# Altium schematic symbol library Inductors.SchLib: 14 symbols
Pins are listed as number, name and electrical type; pins without a type are passive.

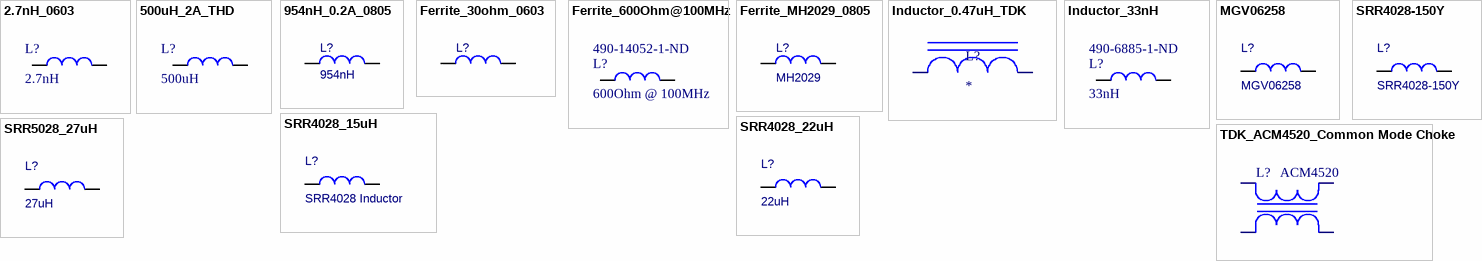
[diagram p0: symbols 2.7nH_0603 to TDK_ACM4520_Common Mode Choke]

## 2.7nH_0603
designator L?, comment 2.7nH
Ind,2.7nH,300mA,100mOhm DCR,13@100MHz,0603; Supplier 1: Digi-Key; Supplier Part Number 1: 399-9570-1-ND
footprint L1608[0603]
pins: 1, 2

## 500uH_2A_THD
designator L?, comment 500uH
1536Y; Supplier 1: Digi-Key; Supplier 2: Mouser; Supplier 3: Arrow; Supplier 4: Allied Electronics; Supplier Part Number 1: HM3330-ND; Supplier Part Number 2: 546-1536Y; Supplier Part Number 3: 1536Y; Supplier Part Number 4: 70181029
footprint 1536Y (Inductor 500uH)
pins: 1, 2

## 954nH_0.2A_0805
designator L?, comment 954nH
EMI Suppr,SMD,600 Ohm @ 100MHz,0.2A,0805; Manufacturer: Murata Electronics North America; Manufacturer P/N: BLM21BD222TN1D; P/N: 245-025-19; UM: EA; Fast Supplier: Digi-Key; Fast Supplier P/N: 490-1050-1-ND; Current: 0.2A
footprint L2012[0805]
pins: 1, 2

## Ferrite_30ohm_0603
designator L?, comment CIC10P300NC  (value not drawn)
IND FERRITE BEAD 30 Ohm @ 100MHz 0603; Manufacturer: Samsung; Featured Product: CIB and CIM Series Chip Beads; Filter Type: Power Line; Number of Lines: 1; Current Rating (Max): 3A; DC Resistance (DCR) (Max): 25 mOhm; Online Catalog: CIC10 Series; Other Names: 1276-6322-6; TZOA PN: 213-00002; Supplier 1: Digi-Key; Manufacturer Part Number: CIC10P300NC; Stock 1: 0; Pricing 1: 1=0.1, 10=0.019, 25=0.0172, 50=0.0156, 100=0.014, 250=0.0102, 500=0.0074, 1000=0.0073 (USD); RoHS Information: Chip Beads RoHS Compliance; Standard Package: 1; Category: Filters; Family: Ferrite Beads and Chips; Series: CIC10; Packaging: Cut Tape (CT); Impedance @ Frequency: 30 Ohm @ 100MHz; Ratings: -; Operating Temperature: -55°C ~ 125°C; Package / Case: 0603 (1608 Metric); Mounting Type: Surface Mount; Height (Max): 0.037" (0.95mm); Size / Dimension: 0.063" L x 0.031" W (1.60mm x 0.80mm); ComponentLink1URL: https://datasheet.ciiva.com/29994/cic10j600nc-29994209.pdf; ComponentLink1Description: https://datasheet.ciiva.com/29994/cic10j600nc-29994209.pdf; ComponentLink2URL: https://datasheet.ciiva.com/30504/cic10p300nc-30504103.pdf; ComponentLink2Description: https://datasheet.ciiva.com/30504/cic10p300nc-30504103.pdf; ComponentLink3URL: https://datasheet.ciiva.com/16206/cic10-series-16206632.pdf; ComponentLink3Description: https://datasheet.ciiva.com/16206/cic10-series-16206632.pdf; Supplier Part Number 1: 1276-6322-1-ND
footprint L1608[0603]
pins: 1, 2

## Ferrite_600Ohm@100MHz
designator L?, comment 600Ohm @ 100MHz  Supplier Part Number 1: 490-14052-1-ND
Ferrite Bead, 600Ohm @ 100MHz, 200mA IDC, Power Line, 0603; Supplier 1: Digi-Key
footprint L1608[0603]
pins: 1, 2

## Ferrite_MH2029_0805
designator L?, comment MH2029
Ferrite,SMD,3A,30Ohm,0805; Manufacturer: Bourns Inc.; Manufacturer Part Number: MH2029-300Y; Filter Type: Power, Signal Line; Number of Lines: 1; Impedance @ Frequency: 30 Ohm @ 100MHz; DC Resistance (DCR) (Max): 25 mOhm; ID: 1851582; Supplier 1: Digi-Key; Supplier Part Number 1: MH2029-300YCT-ND; RoHS: RoHS Compliant; Category: Filters; Stock: 27744; Pricing: 1=0.14, 10=0.087, 25=0.08, 50=0.072, 100=0.0529, 250=0.03844, 500=0.03524, 1000=0.03043 (CAD); Packaging: Cut Tape (CT); Current Rating (Max): 3A; Ratings: -; Operating Temperature: -55°C ~ 125°C; Package / Case: 0805 (2012 Metric); Mounting Type: Surface Mount; Height (Max): 0.043" (1.10mm); Size / Dimension: 0.079" L x 0.047" W (2.00mm x 1.20mm); ComponentLink1URL: http://www.bourns.com/docs/Product-Datasheets/mh.pdf; ComponentLink1Description: http://www.bourns.com/docs/Product-Datasheets/mh.pdf; Supplier 2: Arrow; Supplier Part Number 2: m2dWQtYZmUCQVruAmfTV4mDHm8tZpH9KPPdphe4ib-E; Package Quantity: 1; ComponentLink2URL: https://www.arrow.com/en/products/mh2029-300y/bourns/; ComponentLink2Description: https://www.arrow.com/en/products/mh2029-300y/bourns/
footprint L2012[0805]
pins: 1, 2

## Inductor_0.47uH_TDK
designator L?
Manufacturer: TDK Corporation; Manufacturer Part Number: GLFR1608TR47M-LR; Type: Wirewound; Inductance: 470nH; Tolerance: ±20%; Current Rating: 1.1A; Current - Saturation: 300mA; Shielding: Shielded; DC Resistance (DCR): 50 mOhm; Supplier 1: Digi-Key; Supplier Part Number 1: 445-6158-1-ND; RoHS: RoHS Compliant; Category: Inductors, Coils, Chokes; Stock: 24449; Pricing: 1=0.41, 10=0.359, 50=0.2792, 100=0.2592, 500=0.22722, 1000=0.18336 (CAD); Packaging: Cut Tape (CT); Part Status: Active; Material - Core: -; Q @ Freq: -; Frequency - Self Resonant: -; Ratings: -; Operating Temperature: -40°C ~ 105°C; Frequency - Test: -; Mounting Type: Surface Mount; Package / Case: 0603 (1608 Metric); Size / Dimension: 0.063" L x 0.031" W (1.60mm x 0.80mm); Height - Seated (Max): 0.039" (1.00mm); ComponentLink1URL: http://media.digikey.com/pdf/Data%20Sheets/TDK%20PDFs/GLFR%20Series.pdf; ComponentLink1Description: http://media.digikey.com/pdf/Data%20Sheets/TDK%20PDFs/GLFR%20Series.pdf
footprint 0603_INDUCTOR
pins: 1 (power), 2 (power)

## Inductor_33nH
designator L?, comment 33nH  Supplier Part Number 1: 490-6885-1-ND
Fixed Inductor,SMD,33nH,550mA,132mOhmDCR,2.5GHz,0603; Supplier 1: Digi-Key
footprint L1608[0603]
pins: 1, 2

## MGV06258
designator L?
Inductor, SMD, 8.2uH, 3A, 7.3x6.7mm; Manufacturer: Laird-Signal Integrity; Manufacturer Part Number: MGV06258R2M-10; Supplier 1: Digi-Key; Supplier Part Number 1: 240-2926-1-ND; Supplier 2: Arrow; Supplier Part Number 2: *
footprint MGV06258R2M (8.2uH Shielded Inductor)
pins: 1, 2

## SRR4028-150Y
designator L?
Inductor, SMD, 15uH, 1A, 5x5mm; Manufacturer: Bourns; Type: Power; Maximum DC Current: 1.03 A; Tolerance: 30 %; Maximum DC Resistance: 150 mOhm; Minimum Quality Factor: 9.66@2.52MHz; Rad Hard: No; Core Material: Ferrite; Product Depth: 5 mm; Product Height: 3 mm; Supplier 1: Digikey; Manufacturer Part Number: SRR4028-150Y; Stock 1: 7; Pricing 1: 1=0.7, 10=0.612, 100=0.437 (USD); Package/Case: 5 X 5 X 3; Packaging: Cut Tape; Inductance: 15 uH; ComponentLink1URL: https://datasheet.ciiva.com/4955/srr4028-34013-4955173.pdf; ComponentLink1Description: https://datasheet.ciiva.com/4955/srr4028-34013-4955173.pdf; ComponentLink2URL: https://datasheet.ciiva.com/48684/srr4028-48684773.pdf; ComponentLink2Description: https://datasheet.ciiva.com/48684/srr4028-48684773.pdf; ComponentLink3URL: https://datasheet.ciiva.com/1060/srr4028-1060090.pdf; ComponentLink3Description: https://datasheet.ciiva.com/1060/srr4028-1060090.pdf; ComponentLink4URL: https://datasheet.ciiva.com/1060/srr4028-1060091.pdf; ComponentLink4Description: https://datasheet.ciiva.com/1060/srr4028-1060091.pdf; ComponentLink5URL: https://datasheet.ciiva.com/18686/srr4028-18686924.pdf; ComponentLink5Description: https://datasheet.ciiva.com/18686/srr4028-18686924.pdf; Supplier Part Number 1: SRR4028-150YCT-ND
footprint 1919 (4848 Metric) (Bourns Inductor Footprint)
pins: 1, 2

## SRR4028_15uH
designator L?, comment SRR4028 Inductor
Inductor, SMD, 15uH, 1A, 5x5mm; Manufacturer: Bourns; Manufacturer Part Number: SRR4028-150Y; TZOA PN: 213-00001; Type: Power; Maximum DC Current: 1.03 A; Tolerance: 30 %; Maximum DC Resistance: 150 mOhm; Minimum Quality Factor: 9.66@2.52MHz; Rad Hard: No; Core Material: Ferrite; Product Depth: 5 mm; Product Height: 3 mm; Supplier 1: Digi-Key; Stock 1: 0; Pricing 1: 1=0.7, 10=0.612, 100=0.437 (USD); Package/Case: 5 X 5 X 3; Packaging: Cut Tape; Inductance: 15 uH; ComponentLink1URL: https://datasheet.ciiva.com/4955/srr4028-34013-4955173.pdf; ComponentLink1Description: https://datasheet.ciiva.com/4955/srr4028-34013-4955173.pdf; ComponentLink2URL: https://datasheet.ciiva.com/48684/srr4028-48684773.pdf; ComponentLink2Description: https://datasheet.ciiva.com/48684/srr4028-48684773.pdf; ComponentLink3URL: https://datasheet.ciiva.com/1060/srr4028-1060090.pdf; ComponentLink3Description: https://datasheet.ciiva.com/1060/srr4028-1060090.pdf; ComponentLink4URL: https://datasheet.ciiva.com/1060/srr4028-1060091.pdf; ComponentLink4Description: https://datasheet.ciiva.com/1060/srr4028-1060091.pdf; ComponentLink5URL: https://datasheet.ciiva.com/18686/srr4028-18686924.pdf; ComponentLink5Description: https://datasheet.ciiva.com/18686/srr4028-18686924.pdf; Supplier Part Number 1: SRR4028-150YCT-ND
footprint 1919 (4848 Metric) (Bourns Inductor Footprint)
pins: 1, 2

## SRR4028_22uH
designator L?, comment 22uH
IND FIXED 22µH ±30% 930mA 185mOhm 1919 (4848 Metric); Manufacturer: Bourns; Manufacturer Part Number: SRR4028-220Y; TZOA PN: 213-00001; Type: Power; Minimum Quality Factor: 8.26@2.52MHz; Core Material: Ferrite; Product Height: 3 mm; Supplier 1: Digi-Key; Stock 1: 475; Pricing 1: 1=0.7, 10=0.612, 100=0.437 (USD); Package/Case: 5 X 5 X 3; Inductance: 22 uH; Maximum DC Current: 930 mA; Tolerance: 30 %; Maximum DC Resistance: 185 mOhm; Category: Inductor Surface Mount; ComponentLink1URL: https://datasheet.ciiva.com/1056/srr4028-1056624.pdf; ComponentLink1Description: https://datasheet.ciiva.com/1056/srr4028-1056624.pdf; ComponentLink2URL: https://datasheet.ciiva.com/1056/srr4028-1056625.pdf; ComponentLink2Description: https://datasheet.ciiva.com/1056/srr4028-1056625.pdf; ComponentLink3URL: https://datasheet.ciiva.com/1056/srr4028-1056626.pdf; ComponentLink3Description: https://datasheet.ciiva.com/1056/srr4028-1056626.pdf; ComponentLink4URL: https://datasheet.ciiva.com/11802/0900766b80f2b797-11802948.pdf; ComponentLink4Description: https://datasheet.ciiva.com/11802/0900766b80f2b797-11802948.pdf; ComponentLink5URL: https://datasheet.ciiva.com/4956/srr4028-34013-4956952.pdf; ComponentLink5Description: https://datasheet.ciiva.com/4956/srr4028-34013-4956952.pdf; ComponentLink6URL: https://datasheet.ciiva.com/8517/srr4028-8517113.pdf; ComponentLink6Description: https://datasheet.ciiva.com/8517/srr4028-8517113.pdf; ComponentLink7URL: https://datasheet.ciiva.com/48952/70277086-48952986.pdf; ComponentLink7Description: https://datasheet.ciiva.com/48952/70277086-48952986.pdf; ComponentLink8URL: https://datasheet.ciiva.com/30210/srr4028-30210572.pdf; ComponentLink8Description: https://datasheet.ciiva.com/30210/srr4028-30210572.pdf; ComponentLink9URL: https://datasheet.ciiva.com/8517/srr4028-8517117.pdf; ComponentLink9Description: https://datasheet.ciiva.com/8517/srr4028-8517117.pdf; ComponentLink10URL: https://datasheet.ciiva.com/22679/1697265-22679005.pdf; ComponentLink10Description: https://datasheet.ciiva.com/22679/1697265-22679005.pdf; ComponentLink11URL: https://datasheet.ciiva.com/22679/1697265-22679006.pdf; ComponentLink11Description: https://datasheet.ciiva.com/22679/1697265-22679006.pdf; Supplier Part Number 1: SRR4028-220YCT-ND
footprint 1919 (4848 Metric) (Bourns Inductor Footprint)
pins: 1, 2

## SRR5028_27uH
designator L?, comment 27uH
FIXED IND 27UH 1.05A 160 MOHM; Manufacturer: Bourns; Manufacturer Part Number: SRR5028-270Y; Type: Power; Tolerance: 30 %; Minimum Quality Factor: 10@2.52MHz; Rad Hard: No; Core Material: Ferrite; Product Depth: 6.1 mm; Product Height: 3 mm; Supplier 1: Digi-Key; Stock 1: 1796; Pricing 1: 1=0.79, 10=0.688, 100=0.4916 (USD); Package/Case: 6.1 X 6.1 X 3; Packaging: Cut Tape; Inductance: 27 uH; Maximum DC Current: 1.05 A; Maximum DC Resistance: 160 mOhm; ComponentLink1URL: https://datasheet.ciiva.com/1049/srr5028-1049601.pdf; ComponentLink1Description: https://datasheet.ciiva.com/1049/srr5028-1049601.pdf; ComponentLink2URL: https://datasheet.ciiva.com/1049/srr5028-1049602.pdf; ComponentLink2Description: https://datasheet.ciiva.com/1049/srr5028-1049602.pdf; ComponentLink3URL: https://datasheet.ciiva.com/6689/srr5028-6689622.pdf; ComponentLink3Description: https://datasheet.ciiva.com/6689/srr5028-6689622.pdf; ComponentLink4URL: https://datasheet.ciiva.com/48684/srr5028-48684759.pdf; ComponentLink4Description: https://datasheet.ciiva.com/48684/srr5028-48684759.pdf; ComponentLink5URL: https://datasheet.ciiva.com/8513/srr5028-8513336.pdf; ComponentLink5Description: https://datasheet.ciiva.com/8513/srr5028-8513336.pdf; Supplier Part Number 1: SRR5028-270YCT-ND
footprint SRR5028
pins: 1, 2

## TDK_ACM4520_Common Mode Choke
designator L?, comment ACM4520
IND CMC 1.5A 2LN 1.4 kOhm @ 100MHz ACM4520; Manufacturer: TDK; Manufacturer Part Number: ACM4520-142-2P-TL000; TZOA PN: 213-00003; Catalog Drawings: ACM Series ACM Series_Side; Filter Type: Power Line; Number of Lines: 2; DC Resistance (DCR) (Max): 80 mOhm; Voltage Rating - DC: 50V; Online Catalog: ACM Series; Other Names: 445-174420-2  ACM4520-142-2P-TL000-ND; Supplier 1: Digi-Key; Stock 1: 1841; Pricing 1: 1=1.21, 10=1.121, 100=0.8108, 500=0.621, 1000=0.552 (USD); Standard Package: 2,500; Category: Filters; Family: Common Mode Chokes; Series: ACM; Packaging: Cut Tape (CT); Impedance @ Frequency: 1.4 kOhm @ 100MHz; Inductance @ Frequency: -; Current Rating (Max): 1.5A; Voltage Rating - AC: -; Operating Temperature: -40°C ~ 85°C; Ratings: -; Approvals: -; Features: -; Mounting Type: Surface Mount; Size / Dimension: 0.185" L x 0.177" W (4.70mm x 4.50mm); Height (Max): 0.079" (2.00mm); Package / Case: Horizontal, 4 PC Pad; ComponentLink1URL: https://product.tdk.com/info/en/catalog/datasheets/cmf_commercial_power_acm4520_en.pdf; ComponentLink1Description: https://product.tdk.com/info/en/catalog/datasheets/cmf_commercial_power_acm4520_en.pdf; Supplier Part Number 1: 445-174420-1-ND
footprint ACM4520
pins: 1 (power), 2 (power), 3 (power), 4 (power)